# EAGLE library part POLOLU-DRV8833 (library Pololu_Driver_DRV8833)
Created by: Deltarios DRV8833 pololu dual drive controller, PCB-ready device
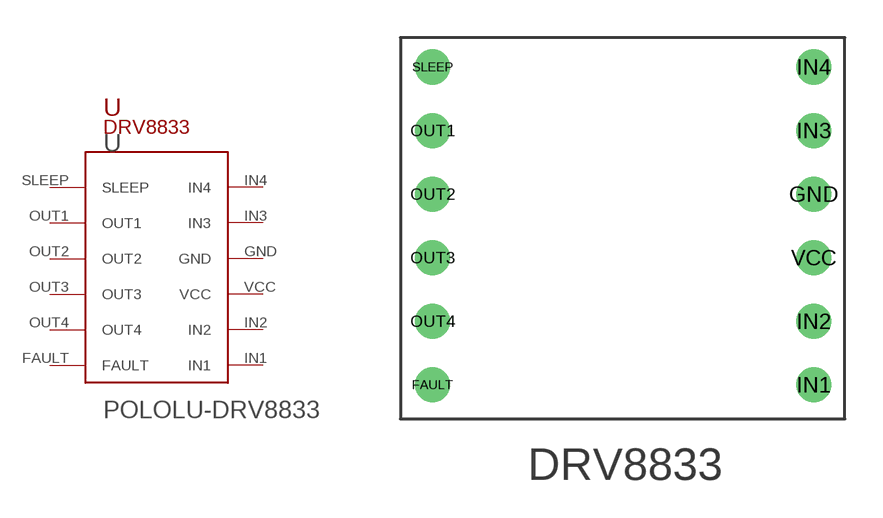
[diagram p0: symbol with the pads of POLOLU-DRV8833; footprint POLOLU-DRV8833]

Designator prefix -

## POLOLU-DRV8833  [POLOLU-DRV8833]
FAULT  FAULT
GND  GND  pwr
IN1  IN1
IN2  IN2
IN3  IN3
IN4  IN4
OUT1  OUT1
OUT2  OUT2
OUT3  OUT3
OUT4  OUT4
SLEEP  SLEEP
VCC  VCC  pwr

## Footprint POLOLU-DRV8833 (pad centres in mm)
drill 0.9: FAULT -8.89,-10.16; GND 6.35,-2.54; IN1 6.35,-10.16; IN2 6.35,-7.62; IN3 6.35,0; IN4 6.35,2.54; OUT1 -8.89,0; OUT2 -8.89,-2.54; OUT3 -8.89,-5.08; OUT4 -8.89,-7.62; SLEEP -8.89,2.54; VCC 6.35,-5.08